# Altium footprint library PCB - POWER INDUCTORS - TAIYO YUDEN NR8040.PcbLib: 1 footprints
Each footprint in its own frame and in the unit in brackets; x right, y up, seen from the top. Pads: shape width x height; smd on the part's side, far side on the other; paste and mask are expansions set on the pad; w line width, h text height; cw(c..) or ccw(c..) is an arc to the next point about the centre after c.
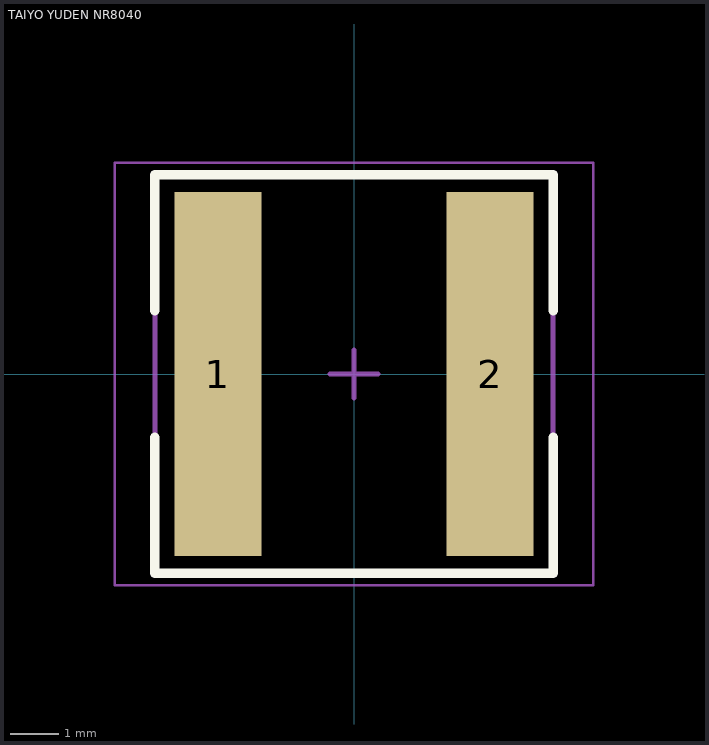
[diagram p0: the footprint, top view; thin cyan lines are the x and y axes]

## TAIYO YUDEN NR8040 [mm] "Precision Wire Wound Inductor, 2-Leads, Body 8.00x8.00mm, IPC Medium Density"
height 4
pads (2):
  rect 1.8x7.5 smd: 1(-2.8,0) 2(2.8,0)
Top Overlay:
  lines w0.2: -4.1,-1.3 -4.1,-4.1 4.1,-4.1 4.1,-1.3 ; -4.1,1.3 -4.1,4.1 4.1,4.1 4.1,1.3
Mechanical 13:
  lines w0.1: -4.1,-4.1 4.1,-4.1 4.1,4.1 -4.1,4.1 -4.1,-4.1
Mechanical 15:
  lines w0.05: -4.925,-4.35 4.925,-4.35 4.925,4.35 -4.925,4.35 -4.925,-4.35
  lines w0.1: -0.5,0 0.5,0 ; 0,-0.5 0,0.5
3D body "Taiyo Yuden - NRS8040.step": height 4, standoff 0, extent -4,-4 4,4